# Altium footprint library common.PcbLib: 42 footprints (part 1 of 3)
Each footprint in its own frame and in the unit in brackets; x right, y up, seen from the top. Pads: shape width x height; smd on the part's side, far side on the other; paste and mask are expansions set on the pad; w line width, h text height; cw(c..) or ccw(c..) is an arc to the next point about the centre after c.
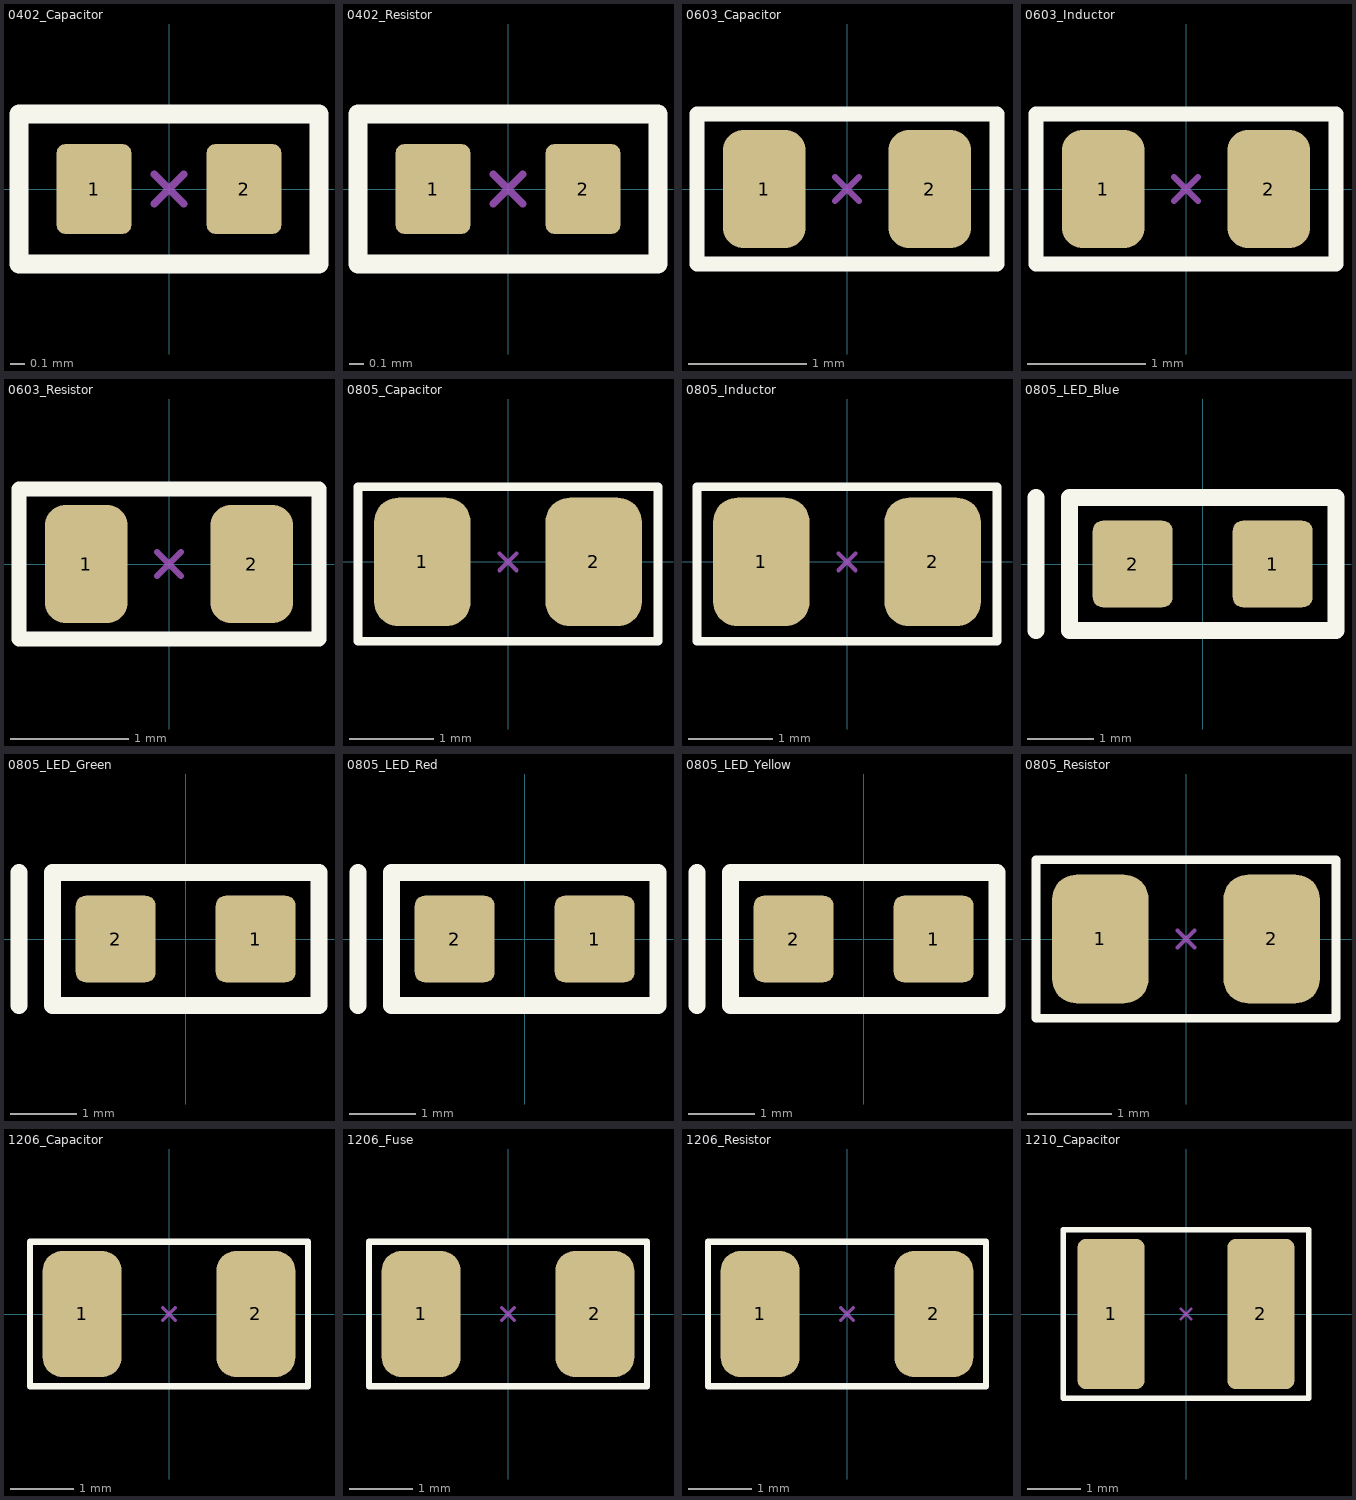
[diagram p0: the footprints below, top view; thin cyan lines are the x and y axes]

## 0402_Capacitor [mil] "0402 CAPACITOR"
pads (2):
  rrect25% 20x24 smd: 1(-20,0) 2(20,0)
Top Overlay:
  lines w5: -40,-20 40,-20 40,20 -40,20 -40,-20
Mechanical 15:
  lines w1.97: -3.94,-3.94 3.94,3.94 ; -3.94,3.94 3.94,-3.94
3D body "User Library-CAPC1005X06.step": height 23.62, standoff 0, extent -19.68,-9.84 19.69,9.85

## 0402_Resistor [mil] "0402 RESISTOR"
pads (2):
  rrect25% 20x24 smd: 1(-20,0) 2(20,0)
Top Overlay:
  lines w5: -40,-20 40,-20 40,20 -40,20 -40,-20
Mechanical 15:
  lines w1.97: -3.94,-3.94 3.94,3.94 ; -3.94,3.94 3.94,-3.94
3D body "User Library-RES_1005-0402.step": height 16.64, standoff 0.5, extent -22.63,-10.82 22.64,10.83

## 0603_Capacitor [mm] "0603 Capacitor"
height 1.1
pads (2):
  rrect50% 0.7x1 smd: 1(-0.7,0) 2(0.7,0)
Top Overlay:
  lines w0.127: -1.27,-0.635 -1.27,0.635 1.27,0.635 1.27,-0.635 -1.27,-0.635
Mechanical 15:
  lines w0.05: -0.1,-0.1 0.1,0.1 ; -0.1,0.1 0.1,-0.1
3D body "User Library-0603 SMD Capacitor.step": height 0.3, standoff 0, extent -0.8,-0.4 0.8,0.4

## 0603_Inductor [mm] "0603 Inductor"
height 0.8
pads (2):
  rrect50% 0.7x1 smd: 1(-0.7,0) 2(0.7,0)
Top Overlay:
  lines w0.127: -1.27,-0.635 1.27,-0.635 1.27,0.635 -1.27,0.635 -1.27,-0.635
Mechanical 15:
  lines w0.05: -0.1,-0.1 0.1,0.1 ; -0.1,0.1 0.1,-0.1
3D body "User Library-FB_1608-1.STEP": height 0.8, standoff 0, extent -0.8,-0.4 0.8,0.4

## 0603_Resistor [mm] "0603 RESISTOR"
height 0.8
pads (2):
  rrect50% 0.7x1 smd: 1(-0.7,0) 2(0.7,0)
Top Overlay:
  lines w0.127: -1.27,-0.635 1.27,-0.635 1.27,0.635 -1.27,0.635 -1.27,-0.635
Mechanical 15:
  lines w0.05: -0.1,-0.1 0.1,0.1 ; -0.1,0.1 0.1,-0.1
3D body "User Library-0603 SMD Resistor.step": height 0.3, standoff 0, extent -0.8,-0.4 0.8,0.4

## 0805_Capacitor [mil] "0805 Capacitor"
height 43.31
pads (2):
  rrect50% 45x60 smd: 1(-40,0) 2(40,0)
Top Overlay:
  lines w4: -70,-37 70,-37 70,35 -70,35 -70,-37
Mechanical 15:
  lines w1.97: -3.94,-3.94 3.94,3.94 ; -3.94,3.94 3.94,-3.94
3D body "User Library-0805 SMD Capacitor.step": height 29.79, standoff -1, extent -39.37,-24.6 39.37,24.6

## 0805_Inductor [mil] "0805 Inductor or Ferrite"
height 43.31
pads (2):
  rrect50% 45x60 smd: 1(-40,0) 2(40,0)
Top Overlay:
  lines w4: -70,-37 70,-37 70,35 -70,35 -70,-37
Mechanical 15:
  lines w1.97: -3.94,-3.94 3.94,3.94 ; -3.94,3.94 3.94,-3.94
3D body "User Library-ind_0805.step": height 37.4, standoff 0, extent -39.36,-23.61 39.37,23.63

## 0805_LED_Blue [mm] "Chip Capacitor; Body 2.0 x 1.2 mm (LxW typ)"
height 1.3
pads (2):
  rrect25% 1.2x1.3 smd: 1(1.05,0) 2(-1.05,0)
Top Overlay:
  lines w0.254: -2.5,-1 -2.5,1 ; -2,-1 -2,1 2,1 2,-1 -2,-1
3D body "0805_led_blue.stp": height 0.79, standoff 0, extent -1.016,-0.635 0.991,0.61

## 0805_LED_Green [mm] "Chip Capacitor; Body 2.0 x 1.2 mm (LxW typ)"
height 1.3
pads (2):
  rrect25% 1.2x1.3 smd: 1(1.05,0) 2(-1.05,0)
Top Overlay:
  lines w0.254: -2.5,-1 -2.5,1 ; -2,-1 -2,1 2,1 2,-1 -2,-1
3D body "0805_led_green.stp": height 0.79, standoff 0, extent -1.016,-0.635 0.991,0.61

## 0805_LED_Red [mm] "Chip Capacitor; Body 2.0 x 1.2 mm (LxW typ)"
height 1.3
pads (2):
  rrect25% 1.2x1.3 smd: 1(1.05,0) 2(-1.05,0)
Top Overlay:
  lines w0.254: -2.5,-1 -2.5,1 ; -2,-1 -2,1 2,1 2,-1 -2,-1
3D body "0805_led_red.stp": height 0.79, standoff 0, extent -1.016,-0.635 0.991,0.61

## 0805_LED_Yellow [mm] "Chip Capacitor; Body 2.0 x 1.2 mm (LxW typ)"
height 1.3
pads (2):
  rrect25% 1.2x1.3 smd: 1(1.05,0) 2(-1.05,0)
Top Overlay:
  lines w0.254: -2.5,-1 -2.5,1 ; -2,-1 -2,1 2,1 2,-1 -2,-1
3D body "0805_led_yellow.stp": height 0.79, standoff 0, extent -1.016,-0.635 0.991,0.61

## 0805_Resistor [mil] "0805 Resistor"
height 43.31
pads (2):
  rrect50% 45x60 smd: 1(-40,0) 2(40,0)
Top Overlay:
  lines w4: -70,-37 70,-37 70,37 -70,37 -70,-37
Mechanical 15:
  lines w1.97: -3.94,-3.94 3.94,3.94 ; -3.94,3.94 3.94,-3.94
3D body "User Library-0805 SMD Resistor.step": height 30.79, standoff 0, extent -39.37,-24.6 39.37,24.61

## 1206_Capacitor [mm] "1206 Resistor/Capacitor"
height 1.1
pads (2):
  rrect50% 1.25x2 smd: 1(-1.375,0) 2(1.375,0)
Top Overlay:
  lines w0.1: -2.2,-1.143 -2.2,1.143 2.2,1.143 2.2,-1.143 -2.2,-1.143
Mechanical 15:
  lines w0.05: -0.1,-0.1 0.1,0.1 ; -0.1,0.1 0.1,-0.1
3D body "SW3dPS-1206 SMD Capacitor.STEP": height 1, standoff 0, extent -1.6,-0.8 1.6,0.8

## 1206_Fuse [mm] "1206 Fuse"
height 1.1
pads (2):
  rrect50% 1.25x2 smd: 1(-1.375,0) 2(1.375,0)
Top Overlay:
  lines w0.1: -2.2,-1.143 2.2,-1.143 2.2,1.143 -2.2,1.143 -2.2,-1.143
Mechanical 13:
  lines w0.1: -1.1,-0.725 -1.1,0.725 ; 1.1,-0.725 1.1,0.725
Mechanical 15:
  lines w0.05: -0.1,-0.1 0.1,0.1 ; -0.1,0.1 0.1,-0.1
3D body "e_0100.3481_003.step": height 0.68, standoff 0.01, extent -1.612,-0.787 1.612,0.813

## 1206_Resistor [mm] "1206 Resistor"
height 1.1
pads (2):
  rrect50% 1.25x2 smd: 1(-1.375,0) 2(1.375,0)
Top Overlay:
  lines w0.1: -2.2,-1.143 -2.2,1.143 2.2,1.143 2.2,-1.143 -2.2,-1.143
Mechanical 13:
  lines w0.1: -1.1,-0.725 -1.1,0.725 ; 1.1,-0.725 1.1,0.725
Mechanical 15:
  lines w0.05: -0.1,-0.1 0.1,0.1 ; -0.1,0.1 0.1,-0.1
3D body "User Library-1206 SMD Resistor.step": height 1, standoff 0, extent -1.6,-0.8 1.6,0.8

## 1210_Capacitor [mm] "1210 Capacitor"
height 1.1
pads (2):
  rrect25% 1.25x2.8 smd: 1(-1.397,0) 2(1.397,0)
Top Overlay:
  lines w0.102: -2.286,-1.575 2.286,-1.575 2.286,1.575 -2.286,1.575 -2.286,-1.575
Mechanical 15:
  lines w0.05: -0.1,-0.1 0.1,0.1 ; -0.1,0.1 0.1,-0.1
3D body "User Library-CAPC3225X13.step": height 1.3, standoff 0, extent -1.6,-1.25 1.6,1.25